# EAGLE library part MID400S (library shield)
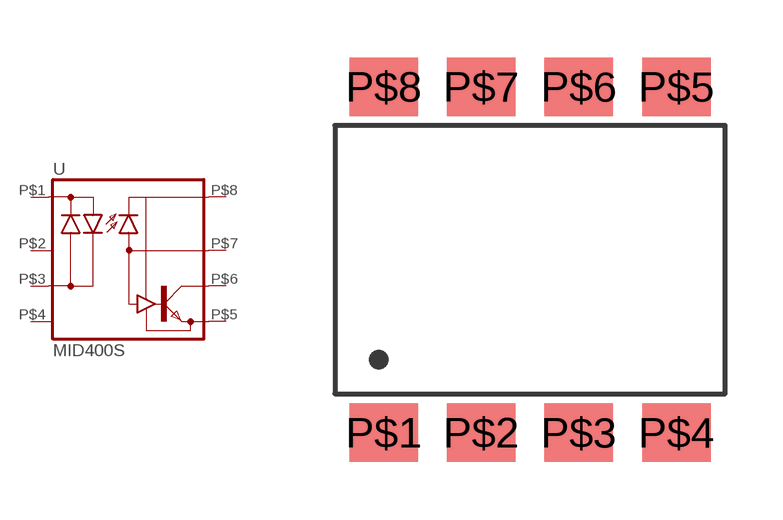
[diagram p0: symbol with the pads of SMT8; footprint SMT8]

Designator prefix -

## MID400S  [SMT8]
P$1  AC1  pas
P$2  NC1  nc
P$3  AC2  pas
P$4  NC2  nc
P$5  GND  pas
P$6  VO  pas
P$7  AUX  pas
P$8  VCC  pas

## Footprint SMT8 (pad centres in mm)
smd 1.78 x 1.52: P$1 0,0; P$2 2.54,0; P$3 5.08,0; P$4 7.62,0; P$5 7.62,9.01; P$6 5.08,9.01; P$7 2.54,9.01; P$8 0,9.01